# EAGLE library part SN74LVC1G11IDCKRQ1 (library U-TI-SN74LVC1G11IDCKR-3in-single-AND-gate-SOT-70-6)
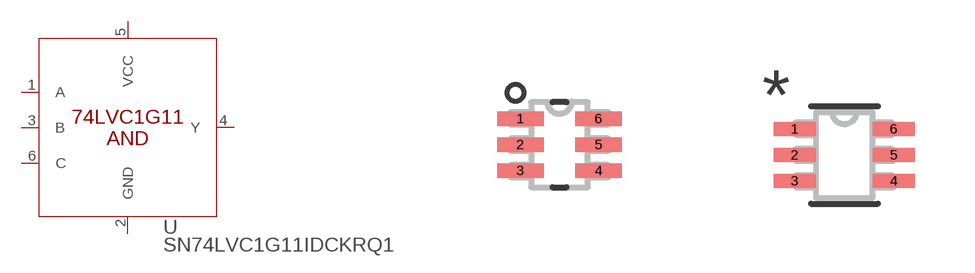
[diagram p0: symbol with the pads of DCK6; footprints DCK6, DCK6-M]

Designator prefix U

## SN74LVC1G11IDCKRQ1 (DATASHEET_URL: http://www.ti.com/lit/gpn/SN74LVC1G11-Q1; DESCRIPTION: Automotive Catalog Single 3-Input Positive-AND Gate; FAMILY_NAME: LL AND GATE; GENERIC_PART_NUMBER: SN74LVC1G11-Q1; INDUSTRY_STD_PKG_TYPE: SC70; MANUFACTURER: Texas Instruments; MANUFACTURER_PART_NUMBER: SN74LVC1G11IDCKRQ1; PACKAGE_DESIGNATOR: DCK; PIN_COUNT: 6; VENDOR: Texas Instruments)  [DCK6]
1  A  in
2  GND  pwr
3  B  in
4  Y  out
5  VCC  pwr
6  C  in

## SN74LVC1G11IDCKRQ1DCK6-M (DATASHEET_URL: http://www.ti.com/lit/gpn/SN74LVC1G11-Q1; DESCRIPTION: Automotive Catalog Single 3-Input Positive-AND Gate; FAMILY_NAME: LL AND GATE; GENERIC_PART_NUMBER: SN74LVC1G11-Q1; INDUSTRY_STD_PKG_TYPE: SC70; MANUFACTURER: Texas Instruments; MANUFACTURER_PART_NUMBER: SN74LVC1G11IDCKRQ1; PACKAGE_DESIGNATOR: DCK; PIN_COUNT: 6; VENDOR: Texas Instruments)  [DCK6-M]
Pads as for DCK6

## SN74LVC1G11IDCKRQ1DCK6-L (DATASHEET_URL: http://www.ti.com/lit/gpn/SN74LVC1G11-Q1; DESCRIPTION: Automotive Catalog Single 3-Input Positive-AND Gate; FAMILY_NAME: LL AND GATE; GENERIC_PART_NUMBER: SN74LVC1G11-Q1; INDUSTRY_STD_PKG_TYPE: SC70; MANUFACTURER: Texas Instruments; MANUFACTURER_PART_NUMBER: SN74LVC1G11IDCKRQ1; PACKAGE_DESIGNATOR: DCK; PIN_COUNT: 6; VENDOR: Texas Instruments)  [DCK6-L]
Pads as for DCK6

## Footprint DCK6 (pad centres in mm)
smd 1.168 x 0.356: 1 -0.978,0.65; 2 -0.978,0; 3 -0.978,-0.65; 4 0.978,-0.65; 5 0.978,0; 6 0.978,0.65

## Footprint DCK6-M (pad centres in mm)
smd 1.054 x 0.356: 1 -1.238,0.65; 2 -1.238,0; 3 -1.238,-0.65; 4 1.238,-0.65; 5 1.238,0; 6 1.238,0.65

## Footprint DCK6-L (pad centres in mm)
smd 0.648 x 0.305: 1 -1.035,0.65; 2 -1.035,0; 3 -1.035,-0.65; 4 1.035,-0.65; 5 1.035,0; 6 1.035,0.65